# Altium footprint library Battery.PcbLib: 11 footprints
Each footprint in its own frame and in the unit in brackets; x right, y up, seen from the top. Pads: shape width x height; smd on the part's side, far side on the other; paste and mask are expansions set on the pad; w line width, h text height; cw(c..) or ccw(c..) is an arc to the next point about the centre after c.
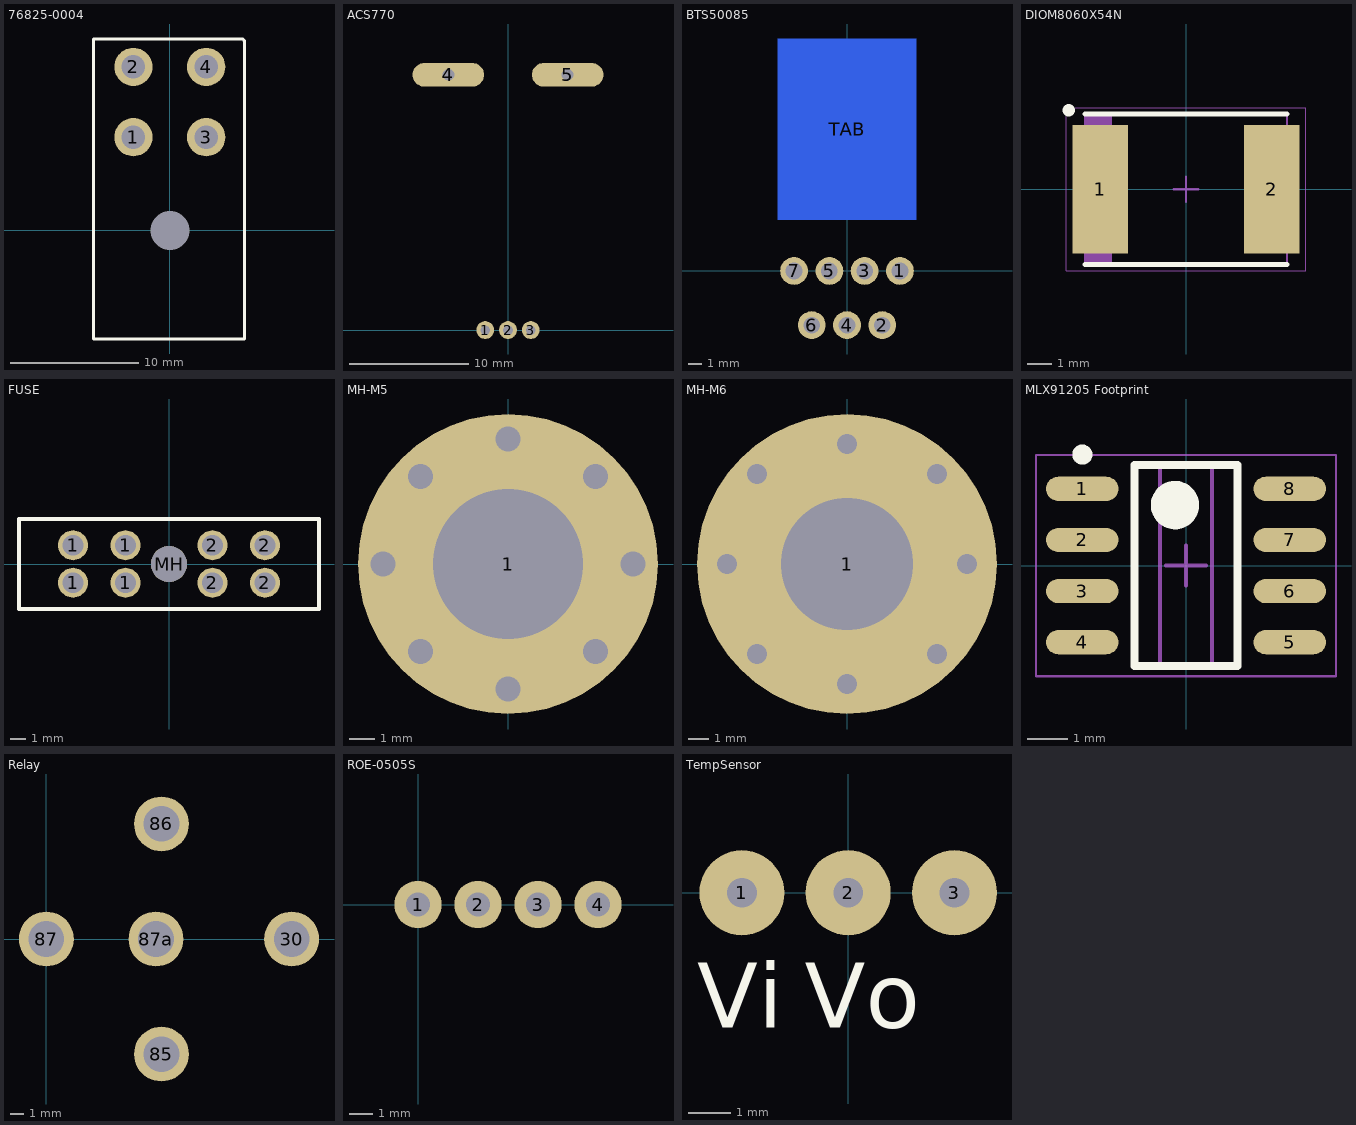
[diagram p0: the footprints below, top view; thin cyan lines are the x and y axes]

## 76825-0004 [mm] "Molex Connector"
pads (5):
  round 3 hole 1.85: 1(-2.85,7.3) 2(-2.85,12.8) 3(2.85,7.3) 4(2.85,12.8)
  round 0 hole 3.05: 22(0,0)
Top Overlay:
  lines w0.254: -5.969,-8.509 5.715,-8.509 5.842,-8.509 5.842,14.859 5.715,14.986 -5.969,14.986 -5.969,-8.509

## ACS770 [mm] "Thru Hole Current Sensor"
pads (5):
  round 1.5 hole 0.8: 1(-1.91,0) 2(0,0) 3(1.91,0)
  oval 6x2 hole 1 square: 4(-5,21.4) 5(5,21.4)
Bottom Overlay:
  lines w0.254: -8,2 8,2 8,19 -8,19 -8,2
  text "1" at -3.937,-1.143 h1

## BTS50085 [mm] "Highside High Current Power Switch"
pads (8):
  round 2 hole 1.2: 1(3.81,0) 2(2.54,-3.9) 3(1.27,0) 4(0,-3.9) 5(-1.27,0)
  round 2 hole 1.2 paste+0: 6(-2.54,-3.9) 7(-3.81,0)
  rect 10x13 smd far side: TAB(0,10.2)
Bottom Overlay:
  text "1" at 5.588,-6.096 h1.52

## DIOM8060X54N [mm] "Molded Diode, 2-Leads, Body 8.01x6.02mm, IPC Medium Density"
height 5.43
pads (2):
  rect 2.25x5.2 smd: 1(-3.475,0) 2(3.475,0)
Top Overlay:
  circle w0.25: c-4.75,3.2 r0.125
  lines w0.2: -4.1,-3.05 4.1,-3.05 ; -4.1,3.05 4.1,3.05
Mechanical 13:
  rectangle: -4.09,-3.05 -2.99,3.05
  lines w0.1: -4.09,-3.05 4.09,-3.05 4.09,3.05 -4.09,3.05 -4.09,-3.05
Mechanical 15:
  lines w0.05: -4.85,-3.3 4.85,-3.3 4.85,3.3 -4.85,3.3 -4.85,-3.3
  lines w0.1: -0.5,0 0.5,0 ; 0,-0.5 0,0.5
3D body "DIOM8060X54N.step": height 5.43, standoff 0, extent -4.31,-3.05 4.31,3.05

## FUSE [mm]
pads (9):
  round 2 hole 1.4: 1(-6.4,-1.25) 1(-6.4,1.25) 1(-2.9,-1.25) 1(-2.9,1.25) 2(2.9,-1.25) 2(2.9,1.25) 2(6.4,-1.25) 2(6.4,1.25)
  round 2.4 hole 2.4 unplated: MH(0,0)
Top Overlay:
  lines w0.254: -10,-3 -10,3 10,3 10,-3 -10,-3
3D body: height 17.5, standoff 0, extent -10,-3 10,3

## MH-M5 [mm]
pads (1):
  round 12 hole 6: 1(0,0)
via -3.5,3.5 diameter 1 hole 1
via -5,0 diameter 1 hole 1
via 5,0 diameter 1 hole 1
via 3.5,3.5 diameter 1 hole 1
via 0,-5 diameter 1 hole 1
via 0,5 diameter 1 hole 1
via 3.5,-3.5 diameter 1 hole 1
via -3.5,-3.5 diameter 1 hole 1

## MH-M6 [mm]
pads (1):
  round 15 hole 6.6: 1(0,0)
via -4.5,-4.5 diameter 1 hole 1
via 4.5,-4.5 diameter 1 hole 1
via 4.5,4.5 diameter 1 hole 1
via -4.5,4.5 diameter 1 hole 1
via -6,0 diameter 1 hole 1
via 0,-6 diameter 1 hole 1
via 6,0 diameter 1 hole 1
via 0,6 diameter 1 hole 1

## MLX91205 Footprint [mm] "SOIC, 8-Leads, Body 4.89x1.27mm, Pitch 1.27mm, IPC Medium Density"
height 1.73
pads (8):
  oval 1.8x0.6 smd: 1(-2.575,1.905) 2(-2.575,0.635) 3(-2.575,-0.635) 4(-2.575,-1.905) 5(2.575,-1.905) 6(2.575,-0.635) 7(2.575,0.635) 8(2.575,1.905)
Top Overlay:
  circle w0.25: c-2.575,2.755 r0.125
  circle w0.6: c-0.275,1.5 r0.3
  lines w0.2: -1.275,-2.5 -1.275,2.5 1.275,2.5 1.275,-2.5 -1.275,-2.5
Mechanical 13:
  lines w0.1: -0.65,-2.5 -0.65,2.5 0.65,2.5 0.65,-2.5 -0.65,-2.5
Mechanical 15:
  lines w0.05: -3.725,-2.75 -3.725,2.75 3.725,2.75 3.725,-2.75 -3.725,-2.75
  lines w0.1: -0.5,0 0.5,0 ; 0,-0.5 0,0.5
3D body: height 1.73, standoff 0.13, extent -0.65,-2.5 0.65,2.5

## Relay [mm]
height 25
pads (5):
  round 4 hole 2.6: 30(17.9,0) 85(8.4,-8.4) 86(8.4,8.4) 87(0,0) 87a(8,0)
3D body: height 1, standoff -3.5, extent 17.4,-1 18.4,1
3D body: height 1, standoff -3.5, extent 7.4,-8.9 9.4,-7.9
3D body: height 1, standoff -3.5, extent 7.4,7.9 9.4,8.9
3D body: height 1, standoff -3.5, extent 7,-0.5 9,0.5
3D body: height 1, standoff -3.5, extent -1,-0.5 1,0.5
3D body: height 25, standoff 1, extent -4,-11 22,11

## ROE-0505S [mm] "12-5V DCDC Converter"
pads (4):
  round 2 hole 1: 1(0,0) 2(2.54,0) 3(5.08,0) 4(7.62,0)
Bottom Overlay:
  lines w0.254: -2.54,-4.826 -2.54,1.905 10.16,1.905 10.16,-4.826 -2.54,-4.826
  text "1" at -1.778,-2.032 h1.52

## TempSensor [mm]
pads (3):
  round 2 hole 0.7: 1(-2.5,0) 2(0,0) 3(2.5,0)
Top Overlay:
  text "Vi" at -3.556,-3.175 h1.52
  text "Vo" at -1.016,-3.175 h1.52